# EAGLE library part 3PDT-AQ-SWITCH (library aquarius)
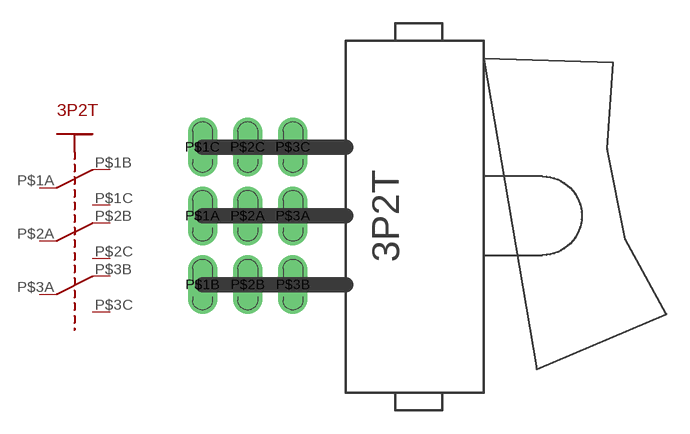
[diagram p2: symbol with the pads of 3PDT-AQ-SWITCH; footprint 3PDT-AQ-SWITCH]

Designator prefix -

## 3PDT-AQ-SWITCH  [3PDT-AQ-SWITCH]
P$1A  P$1A
P$1B  P$1B
P$1C  P$1C
P$2A  P$2A
P$2B  P$2B
P$2C  P$2C
P$3A  P$3A
P$3B  P$3B
P$3C  P$3C

## Footprint 3PDT-AQ-SWITCH (pad centres in mm)
drill 1.27 long: P$1A -2.921,0; P$1B -2.921,-4.445; P$1C -2.921,4.445; P$2A 0,0; P$2B 0,-4.445; P$2C 0,4.445; P$3A 2.921,0; P$3B 2.921,-4.445; P$3C 2.921,4.445